# EAGLE library part LTC6655CHMS8-5PBF (library custom_dzmitry)
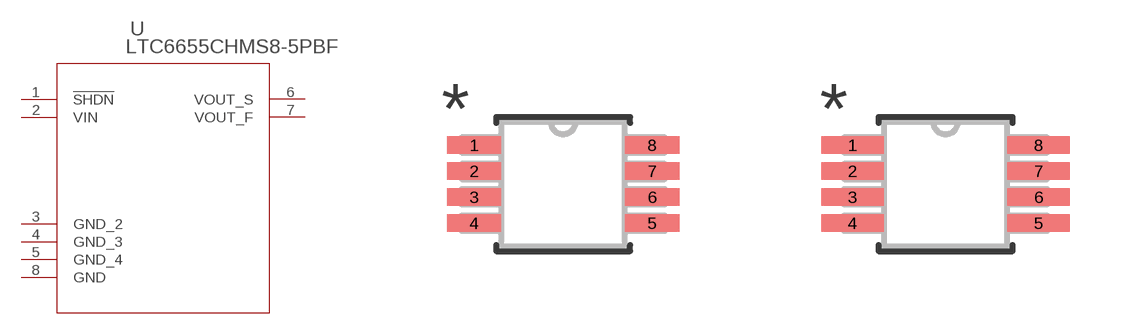
[diagram p11: symbol with the pads of MSOP-8_MS_LIT; footprints MSOP-8_MS_LIT, MSOP-8_MS_LIT-M]

Designator prefix U

## LTC6655CHMS8-5PBF (BUILT_BY: EMA_UL_Team; MANUFACTURER_PART_NUMBER: LTC6655CHMS8-5#PBF; SOURCELIBRARY: LinearTech_2016-05-13_4; VENDOR: Linear Technology)  [MSOP-8_MS_LIT]
1  !SHDN  in
2  VIN  in
3  GND_2  pwr
4  GND_3  pwr
5  GND_4  pwr
6  VOUT_S  out
7  VOUT_F  out
8  GND  pwr

## LTC6655CHMS8-5PBFMSOP-8_MS_LIT-M (BUILT_BY: EMA_UL_Team; MANUFACTURER_PART_NUMBER: LTC6655CHMS8-5#PBF; SOURCELIBRARY: LinearTech_2016-05-13_4; VENDOR: Linear Technology)  [MSOP-8_MS_LIT-M]
Pads as for MSOP-8_MS_LIT

## LTC6655CHMS8-5PBFMSOP-8_MS_LIT-L (BUILT_BY: EMA_UL_Team; MANUFACTURER_PART_NUMBER: LTC6655CHMS8-5#PBF; SOURCELIBRARY: LinearTech_2016-05-13_4; VENDOR: Linear Technology)  [MSOP-8_MS_LIT-L]
Pads as for MSOP-8_MS_LIT

## Footprint MSOP-8_MS_LIT (pad centres in mm)
smd 1.359 x 0.432: 1 -2.229,0.975; 2 -2.229,0.325; 3 -2.229,-0.325; 4 -2.229,-0.975; 5 2.229,-0.975; 6 2.229,-0.325; 7 2.229,0.325; 8 2.229,0.975

## Footprint MSOP-8_MS_LIT-M (pad centres in mm)
smd 1.562 x 0.432: 1 -2.33,0.975; 2 -2.33,0.325; 3 -2.33,-0.325; 4 -2.33,-0.975; 5 2.33,-0.975; 6 2.33,-0.325; 7 2.33,0.325; 8 2.33,0.975

## Footprint MSOP-8_MS_LIT-L (pad centres in mm)
smd 1.092 x 0.381: 1 -2.159,0.975; 2 -2.159,0.325; 3 -2.159,-0.325; 4 -2.159,-0.975; 5 2.159,-0.975; 6 2.159,-0.325; 7 2.159,0.325; 8 2.159,0.975